# EAGLE library part TFM-107-02-L-DH (library Jack-connectors)
Samtec 14 pin dual row horizontal SMT .050" Tiger Eye™ High Reliability Terminal Strip
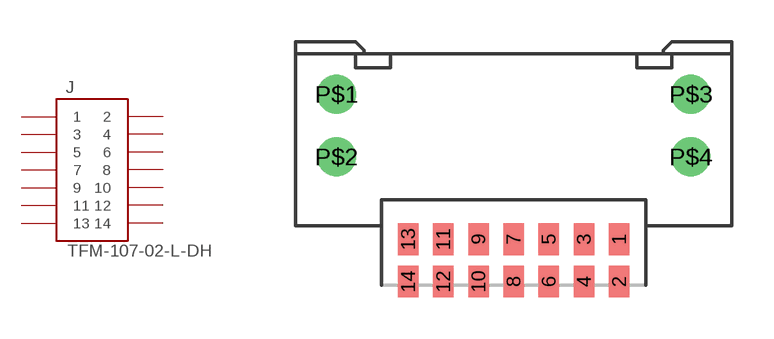
[diagram p12: symbol with the pads of TFM-107-02-L-DH; footprint TFM-107-02-L-DH]

Designator prefix J

## TFM-107-02-L-DH (DESCRIPTION: Samtec 14 pin dual row horizontal SMT .050" Tiger Eye™ High Reliability Terminal Strip; PACK: TFM-107-02-L-DH)  [TFM-107-02-L-DH]
1  1  pas
2  2  pas
3  3  pas
4  4  pas
5  5  pas
6  6  pas
7  7  pas
8  8  pas
9  9  pas
10  10  pas
11  11  pas
12  12  pas
13  13  pas
14  14  pas

## Footprint TFM-107-02-L-DH (pad centres in mm)
smd 0.74 x 1.14: 1 3.81,-5.23; 2 3.81,-6.76; 3 2.54,-5.23; 4 2.54,-6.76; 5 1.27,-5.23; 6 1.27,-6.76; 7 0,-5.23; 8 0,-6.76; 9 -1.27,-5.23; 10 -1.27,-6.76; 11 -2.54,-5.23; 12 -2.54,-6.76; 13 -3.81,-5.23; 14 -3.81,-6.76
drill 0.9: P$1 -6.4,0; P$2 -6.4,-2.26; P$3 6.4,0; P$4 6.4,-2.26